# Altium footprint library Pcb.PcbLib: 5 footprints
Each footprint in its own frame and in the unit in brackets; x right, y up, seen from the top. Pads: shape width x height; smd on the part's side, far side on the other; paste and mask are expansions set on the pad; w line width, h text height; cw(c..) or ccw(c..) is an arc to the next point about the centre after c.
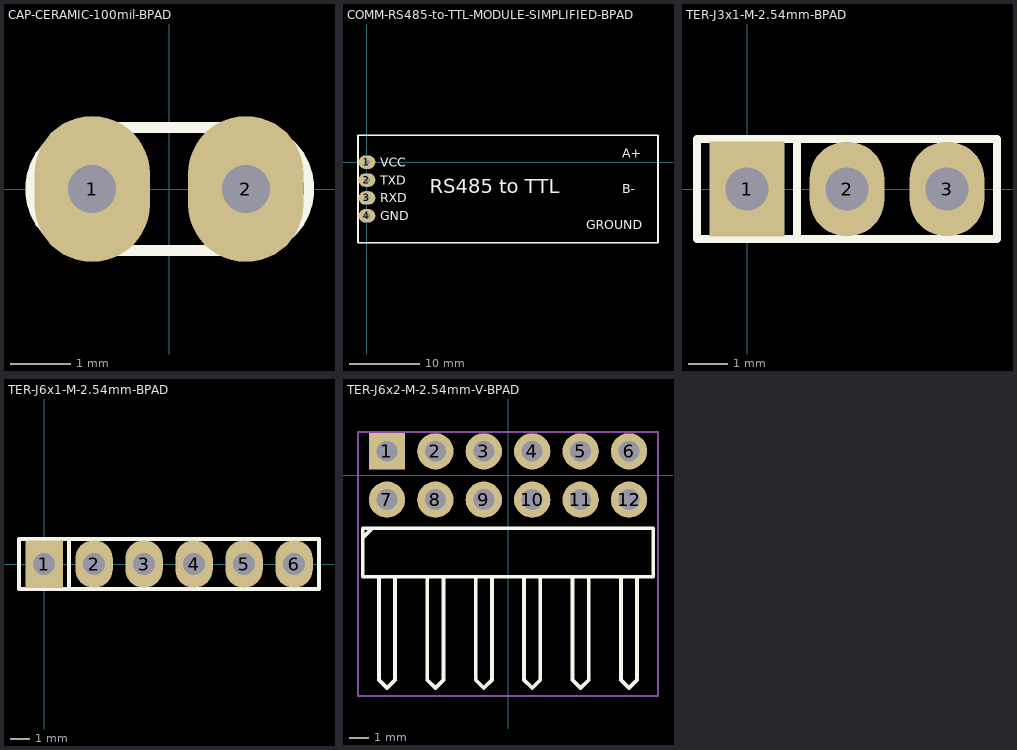
[diagram p0: the footprints below, top view; thin cyan lines are the x and y axes]

## CAP-CERAMIC-100mil-BPAD [mil] "CN1"
height 200
pads (2):
  oval 75x95 hole 31: 1(-50,0) 2(50,0)
Top Overlay:
  lines w7: 50,-40 -50,-40 cw(c-50,0) -50,40 50,40 ; 51,-40 ccw(c51,0) 51,40
3D body "SW3dPS-Cap 100n.STEP": height 265, standoff -46.85, extent -115,-33.39 114.87,33.4

## COMM-RS485-to-TTL-MODULE-SIMPLIFIED-BPAD [mil] "5#RS485 to TTL module"
pads (4):
  oval 95x75 hole 31.5: 1(0,0) 2(0,-100) 3(0,-200) 4(0,-300)
Top Overlay:
  lines w10: -50,-450 -50,150 1625,150 1625,-450 -50,-450
  text "RS485 to TTL" at 350,-175 h80
  text "GROUND" at 1225,-375 h50
  text "B-" at 1425,-175 h50
  text "A+" at 1425,25 h50
  text "GND" at 75,-325 h50
  text "RXD" at 75,-225 h50
  text "TXD" at 75,-125 h50
  text "VCC" at 75,-25 h50
3D body "RS485toTTL.step": height 195, standoff 99.5, extent -50,-450 1625,150

## TER-J3x1-M-2.54mm-BPAD [mil] "3 pins, 1 row, straight, gold plating, JP3-D1T"
height 336.22
pads (3):
  rect 75x95 hole 43.31: 1(0,0)
  oval 75x95 hole 43.31: 2(100,0) 3(200,0)
Top Overlay:
  lines w7.87: 50,-50 50,50 ; -50,-50 250,-50 250,50 -50,50 -50,-50
3D body "61300311121.stp": height 336.22, standoff -118.11, extent -49.99,-49.99 250.01,50.01

## TER-J6x1-M-2.54mm-BPAD [mil] "6 pins, 1 row, straight, gold plating, JP6-D1T"
height 336.22
pads (6):
  rect 75x95 hole 43.31: 1(0,0)
  oval 75x95 hole 43.31: 2(100,0) 3(200,0) 4(300,0) 5(400,0) 6(500,0)
Top Overlay:
  lines w7.87: 50,-50 50,50 ; -50,-50 -50,50 550,50 550,-50 -50,-50
3D body "61300611121.stp": height 336.22, standoff -118.11, extent -49.99,-49.99 550.01,50.01

## TER-J6x2-M-2.54mm-V-BPAD [mm] "12 pins, dual row, right angled, gold plating, JP6-D2C"
height 5.08
pads (12):
  rect 1.905x1.905 hole 1.1: 1(-6.35,1.27)
  round 1.905 hole 1.1: 2(-3.81,1.27) 3(-1.27,1.27) 4(1.27,1.27) 5(3.81,1.27) 6(6.35,1.27) 7(-6.35,-1.27) 8(-3.81,-1.27) 9(-1.27,-1.27) 10(1.27,-1.27) 11(3.81,-1.27) 12(6.35,-1.27)
Top Overlay:
  lines w0.2: -7.578,-3.236 -7.154,-2.812 ; -6.773,-5.335 -6.773,-10.729 -6.35,-11.152 -5.927,-10.729 -5.927,-5.31 ; -4.233,-5.335 -4.233,-10.729 -3.81,-11.152 -3.387,-10.729 -3.387,-5.335 ; -1.693,-5.335 -1.693,-10.729 -1.27,-11.152 -0.847,-10.729 -0.847,-5.31 ; 0.847,-5.335 0.847,-10.729 1.27,-11.152 1.693,-10.729 1.693,-5.335 ; 3.387,-5.335 3.387,-10.729 3.81,-11.152 4.233,-10.729 4.233,-5.31 ; 5.927,-5.335 5.927,-10.729 6.35,-11.152 6.773,-10.729 6.773,-5.335 ; -7.62,-5.31 -7.62,-2.77 7.62,-2.77 7.62,-5.31 -7.62,-5.31
Mechanical 15:
  lines w0.1: -7.87,-11.56 7.87,-11.56 7.87,2.27 -7.87,2.27 -7.87,-11.56
3D body "61301221021.stp": height 5.09, standoff -2.99, extent -7.62,-11.334 7.62,1.566